# Altium schematic symbol library Cap+Res.SchLib: 16 symbols
Pins are listed as number, name and electrical type; pins without a type are passive.

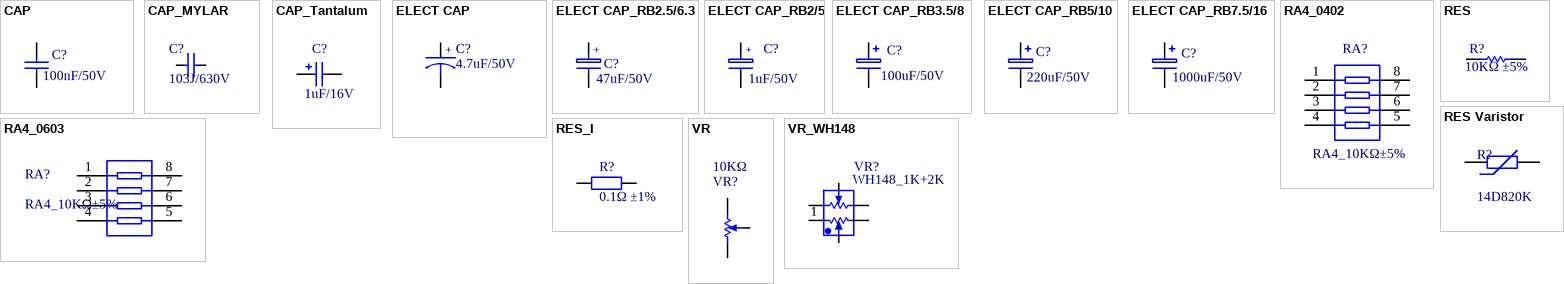
[diagram p0: symbols CAP to VR_WH148]

## CAP
designator C?, comment 100nF/50V
贴片电容; ComponentLink1Description: 供应商链接; ComponentLink1URL: http://www.szlcsc.com/product/details_1875.html; Package: 0402; Supplier: LC; SuppliersPartNumber: C1523
footprint 0402_C
footprint 0603_C
footprint 0805_C
footprint 1206_C
footprint 1210_C
footprint 1806_C
footprint 2220_C
pins: 1, 2

## CAP_MYLAR
designator C?, comment 103J/630V
涤纶电容; ComponentLink1Description: 供应商链接; ComponentLink1URL: http://www.szlcsc.com/product/details_1875.html; Package: 0402; Supplier: LC; SuppliersPartNumber: C1523
footprint CAP-CBB
pins: 1, 2

## CAP_Tantalum
designator C?, comment 1uF/16V
钽电容; ComponentLink1Description: 供应商链接; ComponentLink1URL: http://www.szlcsc.com/product/details_16815.html; Package: 3528; Supplier: LC; SuppliersPartNumber: C16133
footprint CASE-B_3528
footprint CASE-C_6032
footprint CASE-D_7343
footprint CASE-E_7343
footprint CASE-A_3216
pins: 1, 2

## ELECT CAP
designator C?, comment 4.7uF/50V
电解电容; 紅坝1: 醇腳; 基1: 0.161; 基2: 0.2317; 紅坝2: 惩; へ: 4X5.4; м砃戈2: *; м砃戈3: *; SAP: *; 基3: *; 紅坝3: *
footprint RB2/5
footprint RB2.5/6.3
footprint RB3.5/8
footprint RB5/10
footprint RB7.5/16
pins: 1, 2
text: +

## ELECT CAP_RB2.5/6.3
designator C?, comment 47uF/50V
电解电容
footprint RB2.5/6.3
pins: 1, 2
text: +

## ELECT CAP_RB2/5
designator C?, comment 1uF/50V
电解电容
footprint RB2/5
pins: 1, 2
text: +

## ELECT CAP_RB3.5/8 
designator C?, comment 100uF/50V
电解电容
footprint RB3.5/8
pins: 1, 2

## ELECT CAP_RB5/10 
designator C?, comment 220uF/50V
电解电容
footprint RB5/10
pins: 1, 2

## ELECT CAP_RB7.5/16 
designator C?, comment 1000uF/50V
电解电容
footprint RB7.5/16
pins: 1, 2

## RA4_0402
designator RA?, comment RA4_10KΩ±5%
贴片排阻; ComponentLink1Description: 供应商链接; ComponentLink1URL: http://www.szlcsc.com/product/details_26468.html; Package: 0402*4; Supplier: LC; SuppliersPartNumber: C25725
footprint 0402_Rx4
pins: 1, 2, 3, 4, 5, 6, 7, 8

## RA4_0603
designator RA?, comment RA4_10KΩ±5%
贴片排阻; ComponentLink1Description: 供应商链接; ComponentLink1URL: http://www.szlcsc.com/product/details_30472.html; Package: 0603*4; Supplier: LC; SuppliersPartNumber: C29718
footprint 0603_Rx4
pins: 1, 2, 3, 4, 5, 6, 7, 8

## RES
designator R?, comment 10KΩ ±5%
贴片电阻; value: 1k
footprint 0805_R
footprint 0402_R
footprint 0603_R
footprint 1206_R
footprint AXIAL0.4-10mm
pins: 1, 2

## RES Varistor
designator R?, comment 14D820K
压敏电阻; Published: 24-Mar-1999; LatestRevisionDate: 29-May-2009; LatestRevisionNote: IPC-7351 Footprint Added.; PackageVersion: Mar-2003; PackageReference: 6-0805; Publisher: Altium Limited; PackageDescription: Chip Resistor 0805 Case Size; Code_IPC: RESC2012
footprint 14DXXXK
pins: 1, 2

## RES_I
designator R?, comment 0.1Ω ±1%
贴片取样电阻; ComponentLink1Description: 供应商链接; ComponentLink1URL: http://www.szlcsc.com/product/details_18590.html; Package: 1206; Supplier: LC; SuppliersPartNumber: C17902
footprint 1206_R
footprint 2512_R
footprint 1210_R
pins: 1, 2

## VR
designator VR?, comment 10KΩ
可调电阻; ComponentLink1Description: 生产商链接; ComponentLink1URL: http://www.bochen-gs.com/products_detail/productId=266.html
footprint VR_3362P (BOCHEN_3362P)
footprint VR5
footprint VR2
footprint VR_3296W
pins: 1, 2, 3

## VR_WH148
designator VR?, comment WH148_1K+2K
B型双联电位器; ComponentLink1Description: 生产商链接; ComponentLink1URL: http://www.bochen-gs.com/products_detail/productId=266.html
footprint CZ_B
footprint CZA100067
pins: 1, 2, 3, 4, 5, 6